# Altium schematic symbol library G5LE_SERIES.SchLib: 1 symbol
Pins are listed as number, name and electrical type; pins without a type are passive.

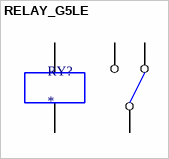
[diagram p0: symbol RELAY_G5LE]

## RELAY_G5LE
designator RY?
Value: G5LE
pins: 1 C1, 2 B1, 3 NA1, 4 NC1, 5 B2